# Altium footprint library 按钮.PcbLib: 21 footprints (part 2 of 2)
Each footprint in its own frame and in the unit in brackets; x right, y up, seen from the top. Pads: shape width x height; smd on the part's side, far side on the other; paste and mask are expansions set on the pad; w line width, h text height; cw(c..) or ccw(c..) is an arc to the next point about the centre after c.
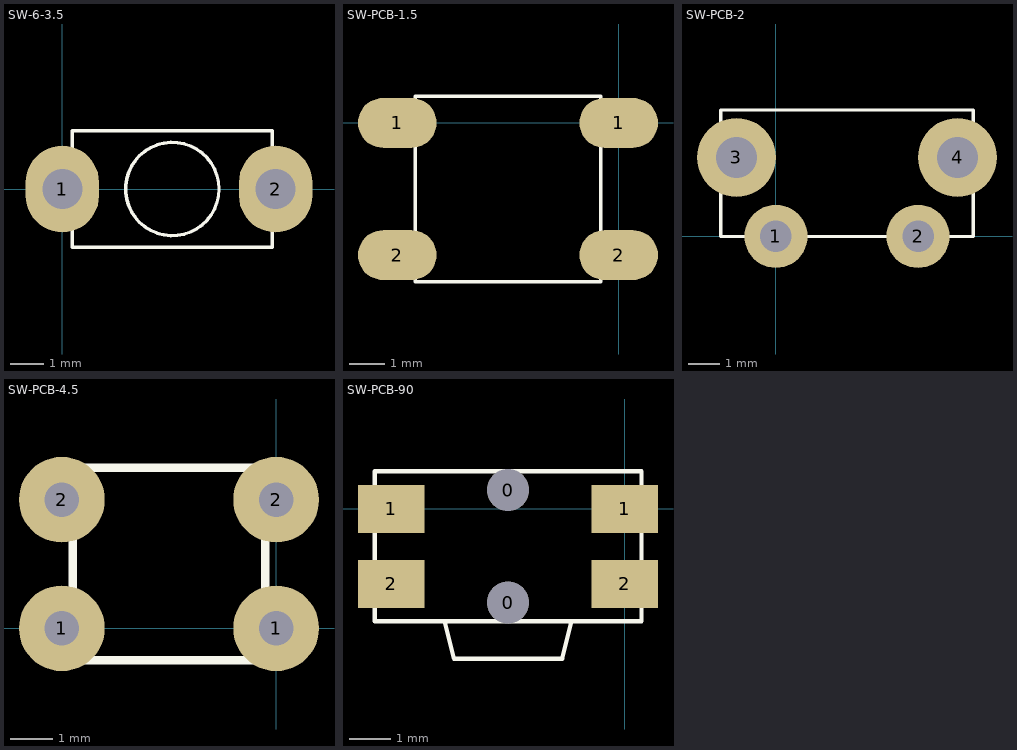
[diagram p1: the footprints below, top view; thin cyan lines are the x and y axes]

## SW-6-3.5 [mm]
pads (2):
  oval 2.2x2.6 hole 1.2: 1(0,0) 2(6.4,0)
Top Overlay:
  circle w0.1: c3.3,0 r1.4
  lines w0.1: 0.3,-1.75 6.3,-1.75 6.3,1.75 0.3,1.75 0.3,-1.75

## SW-PCB-1.5 [mm]
pads (4):
  oval 2.2x1.4 smd: 1(-6.2,0) 1(0,0) 2(-6.2,-3.7) 2(0,-3.7)
Top Overlay:
  lines w0.1: -5.7,-4.45 -0.5,-4.45 -0.5,0.75 -5.7,0.75 -5.7,-4.45

## SW-PCB-2 [mm]
pads (4):
  round 2 hole 1: 1(0,0) 2(4.5,0)
  round 2.5 hole 1.3: 3(-1.25,2.5) 4(5.75,2.5)
Top Overlay:
  lines w0.1: -1.75,0 -1.75,4 6.25,4 6.25,0 -1.75,0

## SW-PCB-4.5 [mm]
pads (4):
  round 2 hole 0.8: 1(-5,0) 1(0,0) 2(-5,3) 2(0,3)
Top Overlay:
  lines w0.2: -4.75,-0.75 -0.25,-0.75 -0.25,3.75 -4.75,3.75 -4.75,-0.75

## SW-PCB-90 [mm]
pads (6):
  round 1 hole 1: 0(-2.8,-2.25) 0(-2.8,0.45)
  rect 1.6x1.15 smd: 1(-5.6,0) 1(0,0) 2(-5.6,-1.8) 2(0,-1.8)
Top Overlay:
  lines w0.1: -4.324,-2.7 -4.1,-3.6 -1.5,-3.6 -1.276,-2.7 ; -6,-2.7 0.4,-2.7 0.4,0.9 -6,0.9 -6,-2.7